# Altium footprint library SIM900.PcbLib: 1 footprints
Each footprint in its own frame and in the unit in brackets; x right, y up, seen from the top. Pads: shape width x height; smd on the part's side, far side on the other; paste and mask are expansions set on the pad; w line width, h text height; cw(c..) or ccw(c..) is an arc to the next point about the centre after c.
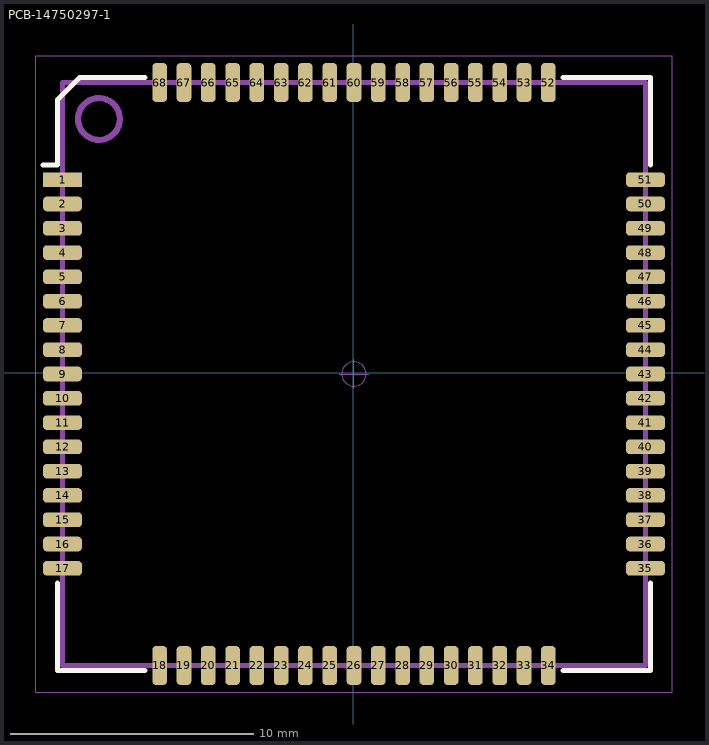
[diagram p0: the footprint, top view; thin cyan lines are the x and y axes]

## PCB-14750297-1 [mm]
pads (68):
  rect 1.6x0.6 smd: 1(-11.973,7.948)
  rrect50% 1.6x0.6 smd: 2(-11.973,6.948) 3(-11.973,5.948) 4(-11.973,4.948) 5(-11.973,3.948) 6(-11.973,2.948) 7(-11.973,1.948) 8(-11.973,0.948) 9(-11.973,-0.052) 10(-11.973,-1.052) 11(-11.973,-2.052) 12(-11.973,-3.052) 13(-11.973,-4.052) 14(-11.973,-5.052) 15(-11.973,-6.052) 16(-11.973,-7.052) 17(-11.973,-8.052) 35(12.027,-8.052) 36(12.027,-7.052) 37(12.027,-6.052) 38(12.027,-5.052) 39(12.027,-4.052) 40(12.027,-3.052) 41(12.027,-2.052) 42(12.027,-1.052) 43(12.027,-0.052) 44(12.027,0.948) 45(12.027,1.948) 46(12.027,2.948) 47(12.027,3.948) 48(12.027,4.948) 49(12.027,5.948) 50(12.027,6.948) 51(12.027,7.948)
  rrect50% 0.6x1.6 smd: 18(-7.973,-12.052) 19(-6.973,-12.052) 20(-5.973,-12.052) 21(-4.973,-12.052) 22(-3.973,-12.052) 23(-2.973,-12.052) 24(-1.973,-12.052) 25(-0.973,-12.052) 26(0.027,-12.052) 27(1.027,-12.052) 28(2.027,-12.052) 29(3.027,-12.052) 30(4.027,-12.052) 31(5.027,-12.052) 32(6.027,-12.052) 33(7.027,-12.052) 34(8.027,-12.052) 52(8.027,11.948) 53(7.027,11.948) 54(6.027,11.948) 55(5.027,11.948) 56(4.027,11.948) 57(3.027,11.948) 58(2.027,11.948) 59(1.027,11.948) 60(0.027,11.948) 61(-0.973,11.948) 62(-1.973,11.948) 63(-2.973,11.948) 64(-3.973,11.948) 65(-4.973,11.948) 66(-5.973,11.948) 67(-6.973,11.948) 68(-7.973,11.948)
Top Overlay:
  lines w0.2: -12.773,8.548 -12.173,8.548 -12.173,11.248 -11.273,12.148 -8.573,12.148 ; -12.173,-8.652 -12.173,-12.252 -8.573,-12.252 ; 8.627,-12.252 12.227,-12.252 12.227,-8.652 ; 8.627,12.148 12.227,12.148 12.227,8.548
3D Top:
  circle w0.254: c-10.473,10.448 r0.86
  lines w0.2: -11.973,-12.052 12.027,-12.052 12.027,11.948 -11.973,11.948 -11.973,-12.052
Courtyard Top:
  circle w0.05: c0.027,-0.052 r0.5
  lines w0.05: -0.573,-0.052 0.627,-0.052 ; 0.027,-0.652 0.027,0.548 ; -13.073,-13.152 13.127,-13.152 13.127,13.048 -13.073,13.048 -13.073,-13.152
3D body: height 3.2, standoff 0, extent -12.254,-11.619 11.746,12.381